# Altium footprint library SMD_Zener_Pcb.PcbLib: 1 footprints
Each footprint in its own frame and in the unit in brackets; x right, y up, seen from the top. Pads: shape width x height; smd on the part's side, far side on the other; paste and mask are expansions set on the pad; w line width, h text height; cw(c..) or ccw(c..) is an arc to the next point about the centre after c.
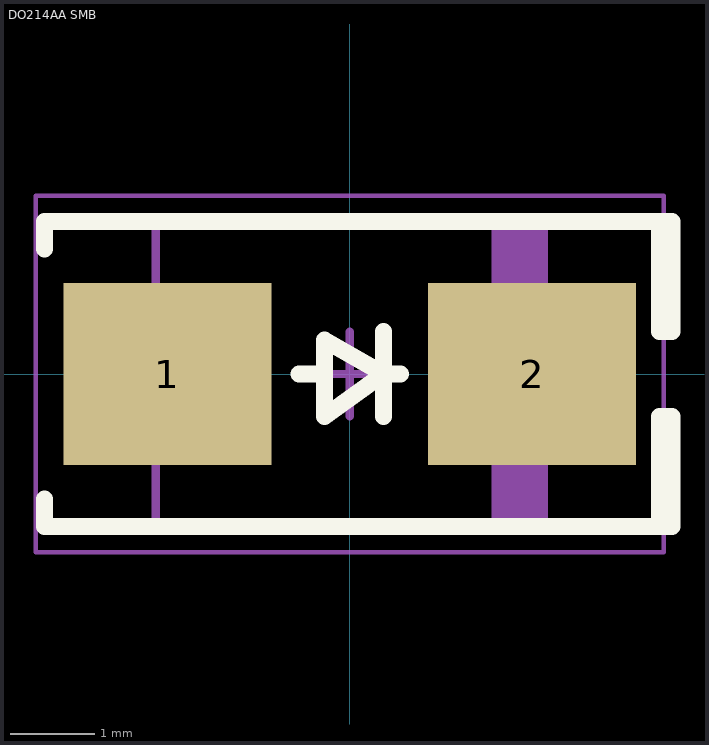
[diagram p0: the footprint, top view; thin cyan lines are the x and y axes]

## DO214AA SMB [mm] "Molded Diode, 2-Leads, Body 4.31x3.62mm, IPC Medium Density"
height 2.44
pads (2):
  rect 2.45x2.15 smd: 1(-2.15,0) 2(2.15,0)
Top Overlay:
  lines w0.2: -3.6,-1.475 -3.6,-1.8 3.8,-1.8 3.8,-0.5 3.65,-0.5 3.65,-1.8 ; -3.6,1.475 -3.6,1.8 3.8,1.8 3.8,0.5 3.65,0.5 3.65,1.8 ; -0.6,0 -0.3,0 ; 0.4,-0.5 0.4,0.5 ; 0.6,0 0.4,0 ; 0.4,0 -0.3,0.4 -0.3,-0.5 0.4,0
Mechanical 13:
  rectangle: 1.67,-1.8 2.285,1.8
  lines w0.1: -2.285,-1.8 2.285,-1.8 2.285,1.8 -2.285,1.8 -2.285,-1.8
Mechanical 15:
  lines w0.05: -3.7,-2.1 3.7,-2.1 3.7,2.1 -3.7,2.1 -3.7,-2.1
  lines w0.1: -0.5,0 0.5,0 ; 0,-0.5 0,0.5
3D body "SMB.STEP": height 2.4, standoff 0, extent -2.6,-1.799 2.6,1.8